# EAGLE library part MCP4922 (library HelaTronix - IC Special Functions)
12-Bit Dual Voltage Output Digital-to-Analog Converter (DAC) with SPI Interface
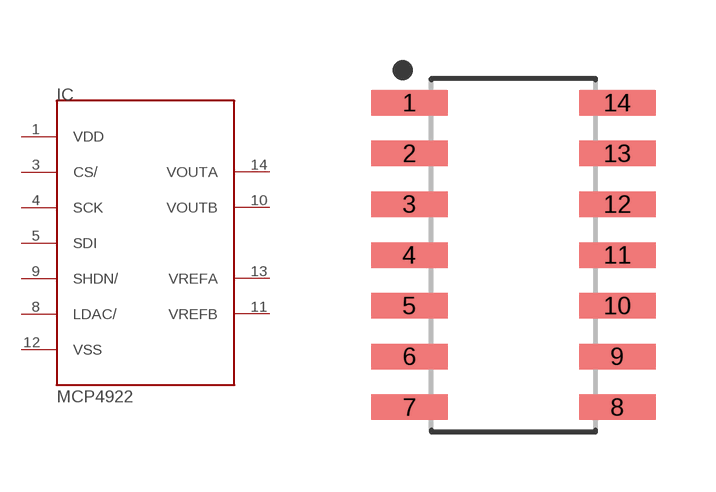
[diagram p9: symbol with the pads of SOIC127P610X175-14N; footprint SOIC127P610X175-14N]

Designator prefix IC

## MCP4922 (LCSC#: C39851; LCSC_LINK: https://lcsc.com/product-detail/Digital-To-Analog-Converters-DACs_Microchip-Tech-MCP4922-E-SL_C39851.html; MANUFACTURER: Microchip Tech; MFR#: MCP4922-E/SL)  [SOIC127P610X175-14N]
1  VDD
3  CS/
4  SCK
5  SDI
8  LDAC/
9  SHDN/
10  VOUTB
11  VREFB
12  VSS
13  VREFA
14  VOUTA

## Footprint SOIC127P610X175-14N (pad centres in mm)
14-SOIC, 1.27 mm pitch, 6.10 mm span, 8.75 X 4.00 X 1.75 mm body 14-pin SOIC package with 1.27 mm pitch, 6.10 mm span with body size 8.75 X 4.00 X 1.75 mm
smd 1.914 x 0.637: 1 -2.6,3.81; 2 -2.6,2.54; 3 -2.6,1.27; 4 -2.6,0; 5 -2.6,-1.27; 6 -2.6,-2.54; 7 -2.6,-3.81; 8 2.6,-3.81; 9 2.6,-2.54; 10 2.6,-1.27; 11 2.6,0; 12 2.6,1.27; 13 2.6,2.54; 14 2.6,3.81